# Altium footprint library Quadcopter.PcbLib: 19 footprints (part 2 of 2)
Each footprint in its own frame and in the unit in brackets; x right, y up, seen from the top. Pads: shape width x height; smd on the part's side, far side on the other; paste and mask are expansions set on the pad; w line width, h text height; cw(c..) or ccw(c..) is an arc to the next point about the centre after c.
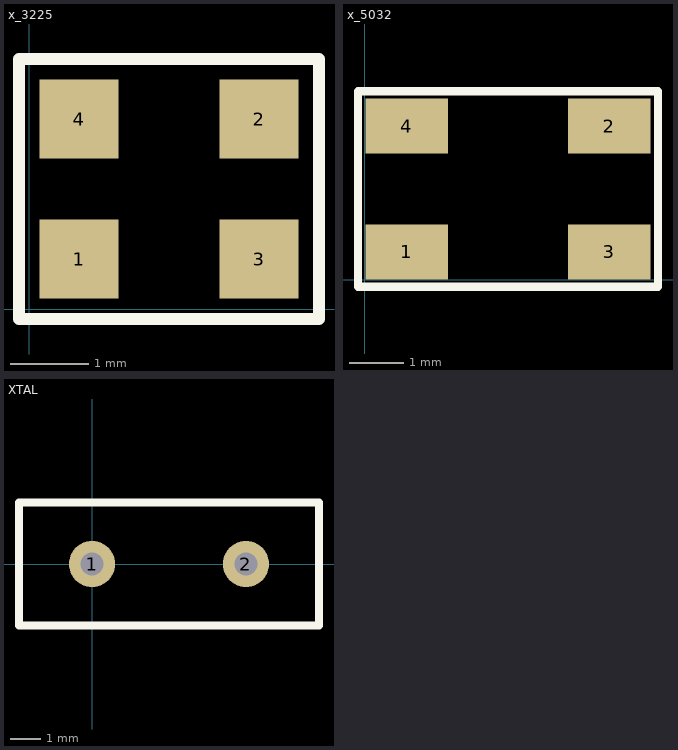
[diagram p1: the footprints below, top view; thin cyan lines are the x and y axes]

## x_3225 [mm]
pads (4):
  rect 1x1 smd: 1(0.635,0.635) 2(2.921,2.413) 3(2.921,0.635) 4(0.635,2.413)
Top Overlay:
  lines w0.152: -0.127,-0.127 -0.127,3.175 3.683,3.175 3.683,-0.127 -0.127,-0.127
3D body: height 0.76, standoff 0, extent 0.033,0.033 3.523,3.015

## x_5032 [mm]
pads (4):
  rect 1.5x1 smd: 1(0.762,0.508) 2(4.445,2.794) 3(4.445,0.508) 4(0.762,2.794)
Top Overlay:
  lines w0.152: -0.127,-0.127 5.334,-0.127 5.334,3.429 -0.127,3.429 -0.127,-0.127

## XTAL [mil]
pads (2):
  round 60 hole 30: 1(0,0) 2(200,0)
Top Overlay:
  lines w10: -95,-80 -95,80 295,80 295,-80 -95,-80